# Altium schematic symbol library TPCA8120.SchLib: 1 symbol
Pins are listed as number, name and electrical type; pins without a type are passive.

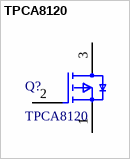
[diagram p0: symbol TPCA8120]

## TPCA8120
designator Q?
MOSFET P-CH 30V 45A SOP Advance; RDS(ON) @ VGS = -10: 2.4 mΩ; Drain-source voltage (max): -30V; Gate-source voltage (max): -25/+20V; Drain current (DC): -45A; Gate threshold voltage (max): -2V
footprint TPCA8120; pin to pad 1>1+2+3 2>4 3>5+6+7+8+9
pins: 1 S, 2 G, 3 D